# EAGLE library part LMD18201 (library untitled)
National Semiconductor LMD18201 3A, 55V H-bridge
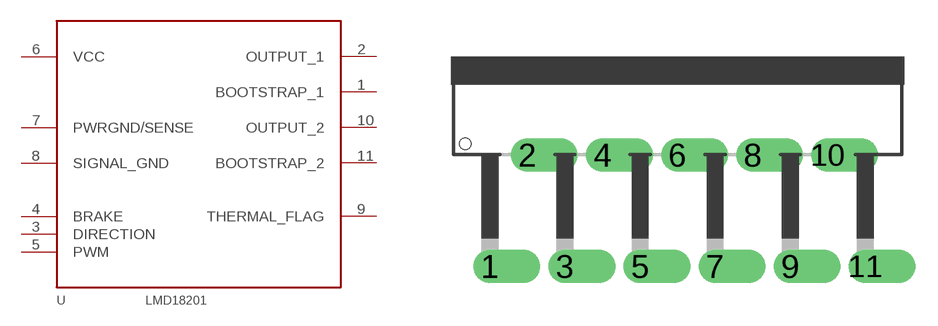
[diagram p1: symbol with the pads of TO-220-11; footprint TO-220-11]

Designator prefix U

## LMD18201T  [TO-220-11]
1  BOOTSTRAP_1  out
2  OUTPUT_1  out
3  DIRECTION  in
4  BRAKE  in
5  PWM  in
6  VCC  pwr
7  PWRGND/SENSE  pwr
8  SIGNAL_GND  pwr
9  THERMAL_FLAG  out
10  OUTPUT_2  out
11  BOOTSTRAP_2  out

## Footprint TO-220-11 (pad centres in mm)
drill 1.016 offset: 1 -8.084,-2.718; 2 -6.382,2.337; 3 -4.68,-2.718; 4 -2.978,2.337; 5 -1.276,-2.718; 6 0.425,2.337; 7 2.127,-2.718; 8 3.829,2.337; 9 5.531,-2.718; 10 7.233,2.337; 11 8.934,-2.718